# Altium footprint library Relay Board.PcbLib: 3 footprints
Each footprint in its own frame and in the unit in brackets; x right, y up, seen from the top. Pads: shape width x height; smd on the part's side, far side on the other; paste and mask are expansions set on the pad; w line width, h text height; cw(c..) or ccw(c..) is an arc to the next point about the centre after c.
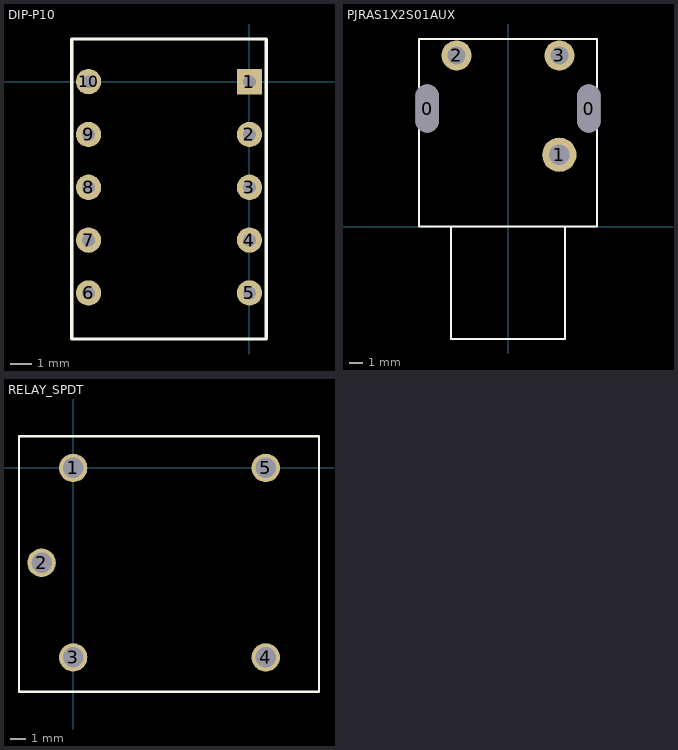
[diagram p0: the footprints below, top view; thin cyan lines are the x and y axes]

## DIP-P10 [mm]
pads (10):
  rect 1.2x1.2 hole 0.6: 1(0,0)
  round 1.2 hole 0.6: 2(0,-2.5) 3(0,-5) 4(0,-7.5) 5(0,-10) 6(-7.62,-10) 7(-7.62,-7.5) 8(-7.62,-5) 9(-7.62,-2.5) 10(-7.62,0)
Top Overlay:
  lines w0.152: -8.41,-12.18 -8.41,2.02 ; -8.382,-12.18 0.762,-12.18 ; -8.382,2.02 0.762,2.02 ; 0.79,-12.18 0.79,2.02
3D body: height 5.4, standoff 0.33, extent -8.382,-12.192 0.762,2.032

## PJRAS1X2S01AUX [mm] "DUAL RCA PCB"
height 28.5
pads (5):
  oval 1.7x3.5 hole 1.7 slot 3.5 at 90 deg unplated: 0(-5.896,8.623) 0(5.896,8.623)
  round 2.5 hole 1.5: 1(3.75,5.25)
  round 2.2 hole 1.3: 2(-3.75,12.5) 3(3.75,12.5)
Top Overlay:
  lines w0.15: -4.15,0 -4.15,-8.2 4.15,-8.2 4.15,0 ; -6.5,0 -6.5,13.7 6.5,13.7 6.5,0 0,0 -6.5,0
3D body: height 28.5, standoff -4.24, extent -6.472,-8.174 10.028,13.716

## RELAY_SPDT [mm] "JQ3FF-24"
height 15.5
pads (5):
  round 1.8 hole 1.3: 1(0,0) 2(-2,-6) 3(0,-12) 4(12.2,-12) 5(12.2,0)
Top Overlay:
  lines w0.152: -3.429,-14.184 15.571,-14.184 15.571,2.016 -3.429,2.016 -3.429,-14.184
3D body: height 15.5, standoff 0.5, extent -3.429,-14.097 15.494,2.032